# EAGLE library part ADC088S102 (library GadgetFactory_v1)
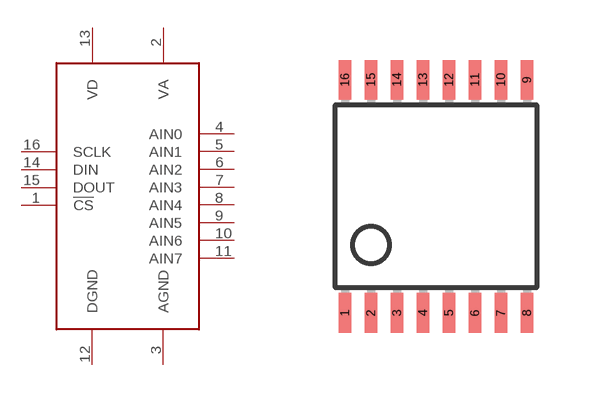
[diagram p3: symbol with the pads of TSSOP16; footprint TSSOP16]

Designator prefix U

## ADC088S102CIMT  [TSSOP16]
1  !CS  in
2  VA  pwr
3  AGND  pwr
4  AIN0  in
5  AIN1  in
6  AIN2  in
7  AIN3  in
8  AIN4  in
9  AIN5  in
10  AIN6  in
11  AIN7  in
12  DGND  pwr
13  VD  pwr
14  DIN  in
15  DOUT  out
16  SCLK  in

## Footprint TSSOP16 (pad centres in mm)
Thin Shrink Small Outline Plastic 16 MAX3223-MAX3243.pdf
smd 0.317 x 0.991: 1 -2.275,-2.918; 2 -1.625,-2.918; 3 -0.975,-2.918; 4 -0.325,-2.918; 5 0.325,-2.918; 6 0.975,-2.918; 7 1.625,-2.918; 8 2.275,-2.918; 9 2.275,2.918; 10 1.625,2.918; 11 0.975,2.918; 12 0.325,2.918; 13 -0.325,2.918; 14 -0.975,2.918; 15 -1.625,2.918; 16 -2.275,2.918